# Altium footprint library Chokes.PcbLib: 19 footprints (part 1 of 2)
Each footprint in its own frame and in the unit in brackets; x right, y up, seen from the top. Pads: shape width x height; smd on the part's side, far side on the other; paste and mask are expansions set on the pad; w line width, h text height; cw(c..) or ccw(c..) is an arc to the next point about the centre after c.
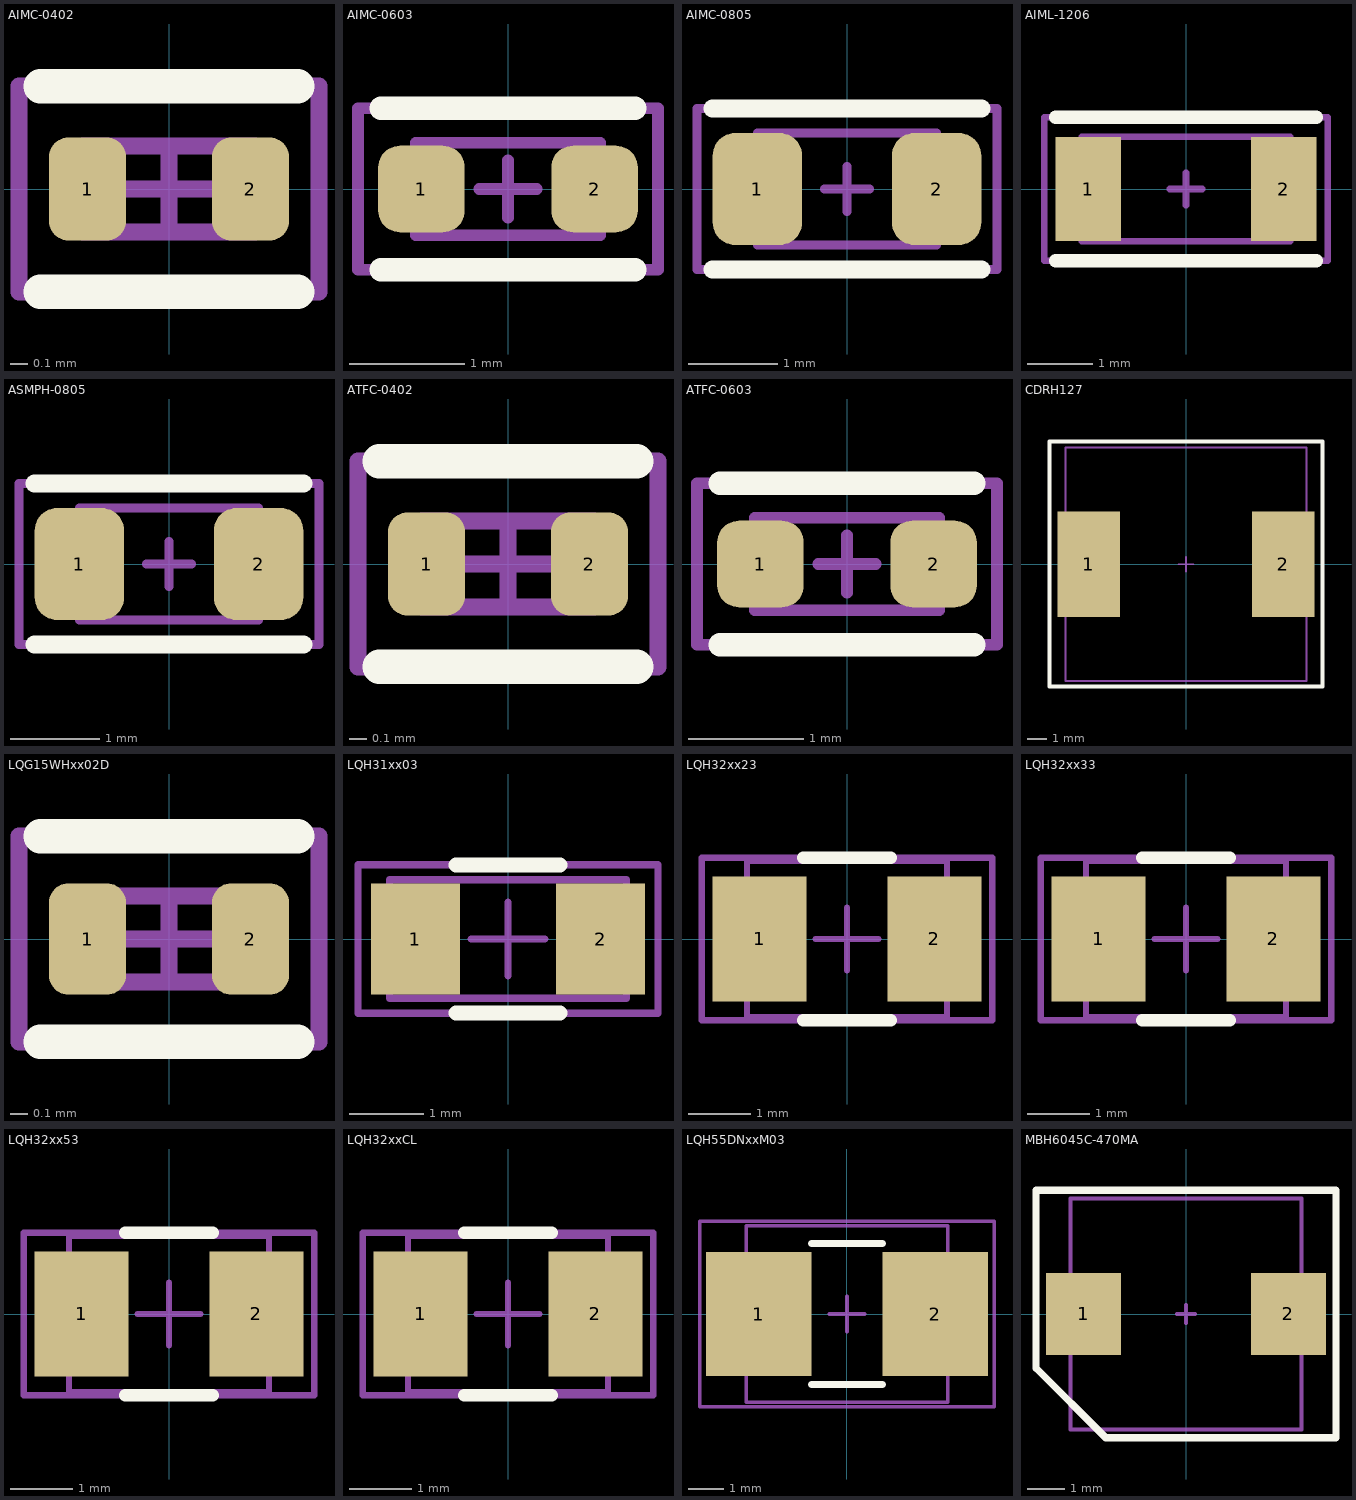
[diagram p0: the footprints below, top view; thin cyan lines are the x and y axes]

## AIMC-0402 [mm]
pads (2):
  rrect50% 0.45x0.6 smd: 1(-0.475,0) 2(0.475,0)
Top Overlay:
  lines w0.2: -0.75,-0.6 0.75,-0.6 ; -0.75,0.6 0.75,0.6
Top Assy:
  lines w0.1: -0.5,-0.25 0.5,-0.25 0.5,0.25 -0.5,0.25 -0.5,-0.25
Border (Mech15):
  lines w0.1: -0.25,0 0.25,0 ; 0,-0.25 0,0.25 ; -0.875,-0.6 -0.875,0.6 0.875,0.6 0.875,-0.6 -0.875,-0.6
3D body "AIMC-0402.STEP": height 0.65, standoff 0, extent -0.5,-0.25 0.5,0.25

## AIMC-0603 [mm]
pads (2):
  rrect50% 0.75x0.75 smd: 1(-0.75,0) 2(0.75,0)
Top Overlay:
  lines w0.2: -1.1,-0.7 1.1,-0.7 ; -1.1,0.7 1.1,0.7
Top Assy:
  lines w0.1: -0.8,-0.4 0.8,-0.4 0.8,0.4 -0.8,0.4 -0.8,-0.4
Border (Mech15):
  lines w0.1: -0.25,0 0.25,0 ; 0,-0.25 0,0.25 ; -1.3,-0.7 -1.3,0.7 1.3,0.7 1.3,-0.7 -1.3,-0.7
3D body "AIMC-0603.STEP": height 0.95, standoff 0, extent -0.8,-0.4 0.8,0.4

## AIMC-0805 [mm]
pads (2):
  rrect50% 1x1.25 smd: 1(-1,0) 2(1,0)
Top Overlay:
  lines w0.2: -1.5,-0.9 1.5,-0.9 ; -1.5,0.9 1.5,0.9
Top Assy:
  lines w0.1: -1,-0.625 1,-0.625 1,0.625 -1,0.625 -1,-0.625
Border (Mech15):
  lines w0.1: -0.25,0 0.25,0 ; 0,-0.25 0,0.25 ; -1.675,-0.9 -1.675,0.9 1.675,0.9 1.675,-0.9 -1.675,-0.9
3D body "AIMC-0805.STEP": height 1.15, standoff 0, extent -1,-0.625 1,0.625

## AIML-1206 [mm]
pads (2):
  rect 1x1.6 smd: 1(-1.5,0) 2(1.5,0)
Top Overlay:
  lines w0.2: -2,-1.1 2,-1.1 ; -2,1.1 2,1.1
Top Assy:
  lines w0.1: -1.6,-0.8 -1.6,0.8 1.6,0.8 1.6,-0.8 -1.6,-0.8
Border (Mech15):
  lines w0.1: -0.25,0 0.25,0 ; 0,-0.25 0,0.25 ; -2.175,-1.1 2.175,-1.1 2.175,1.1 -2.175,1.1 -2.175,-1.1
3D body "AIML-1206.STEP": height 1.4, standoff 0, extent -1.6,-0.8 1.6,0.8

## ASMPH-0805 [mm]
pads (2):
  rrect50% 1x1.25 smd: 1(-1,0) 2(1,0)
Top Overlay:
  lines w0.2: -1.5,-0.9 1.5,-0.9 ; -1.5,0.9 1.5,0.9
Top Assy:
  lines w0.1: -1,-0.625 1,-0.625 1,0.625 -1,0.625 -1,-0.625
Border (Mech15):
  lines w0.1: -0.25,0 0.25,0 ; 0,-0.25 0,0.25 ; -1.675,-0.9 -1.675,0.9 1.675,0.9 1.675,-0.9 -1.675,-0.9
3D body "ASMPH-0805.STEP": height 1, standoff 0, extent -1,-0.625 1,0.625

## ATFC-0402 [mm]
pads (2):
  rrect50% 0.45x0.6 smd: 1(-0.475,0) 2(0.475,0)
Top Overlay:
  lines w0.2: -0.75,-0.6 0.75,-0.6 ; -0.75,0.6 0.75,0.6
Top Assy:
  lines w0.1: -0.5,-0.25 0.5,-0.25 0.5,0.25 -0.5,0.25 -0.5,-0.25
Border (Mech15):
  lines w0.1: -0.25,0 0.25,0 ; 0,-0.25 0,0.25 ; -0.875,-0.6 -0.875,0.6 0.875,0.6 0.875,-0.6 -0.875,-0.6
3D body "ATFC-0402.STEP": height 0.37, standoff 0, extent -0.5,-0.25 0.5,0.25

## ATFC-0603 [mm]
pads (2):
  rrect50% 0.75x0.75 smd: 1(-0.75,0) 2(0.75,0)
Top Overlay:
  lines w0.2: -1.1,-0.7 1.1,-0.7 ; -1.1,0.7 1.1,0.7
Top Assy:
  lines w0.1: -0.8,-0.4 -0.8,0.4 0.8,0.4 0.8,-0.4 -0.8,-0.4
Border (Mech15):
  lines w0.1: -0.25,0 0.25,0 ; 0,-0.25 0,0.25 ; -1.3,-0.7 1.3,-0.7 1.3,0.7 -1.3,0.7 -1.3,-0.7
3D body "ATFC-0603.STEP": height 0.55, standoff 0, extent -0.8,-0.4 0.8,0.4

## CDRH127 [mm]
pads (2):
  rect 3.2x5.4 smd: 1(-5,0) 2(5,0)
Top Overlay:
  lines w0.2: -7,-6.275 -7,6.3 7,6.3 7,-6.275 -7,-6.275
Top Assy:
  lines w0.1: -6.175,-6 -6.175,6 6.175,6 6.175,-6 -6.175,-6
Border (Mech15):
  lines w0.1: -7,-6.275 7,-6.275 7,-6.25 7,6.3 -7,6.3 -7,-6.25 ; -0.375,0 0.375,0 ; 0,-0.375 0,0 0,0.375
3D body "SUMIDA-CDRH127.step": height 7.5, standoff 0.05, extent -6.171,-6 6.171,6

## LQG15WHxx02D [mm]
pads (2):
  rrect50% 0.45x0.65 smd: 1(-0.475,0) 2(0.475,0)
Top Overlay:
  lines w0.2: -0.75,-0.6 0.75,-0.6 ; -0.75,0.6 0.75,0.6
Top Assy:
  lines w0.1: -0.5,-0.25 -0.5,0.25 0.5,0.25 0.5,-0.25 -0.5,-0.25
Border (Mech15):
  lines w0.1: -0.25,0 0.25,0 ; 0,-0.25 0,0.25 ; -0.875,-0.6 0.875,-0.6 0.875,0.6 -0.875,0.6 -0.875,-0.6
3D body "LQG15WHxx02D.STEP": height 0.6, standoff 0, extent -0.5,-0.3 0.5,0.3

## LQH31xx03 [mm]
pads (2):
  rect 1.2x1.5 smd: 1(-1.25,0) 2(1.25,0)
Top Overlay:
  lines w0.2: -0.7,-1 0.7,-1 ; -0.7,1 0.7,1
Top Assy:
  lines w0.1: -1.6,-0.8 -1.6,0.8 1.6,0.8 1.6,-0.8 -1.6,-0.8
Border (Mech15):
  lines w0.1: -0.5,0 0.5,0 ; 0,-0.5 0,0.5 ; -2.025,-1 2.025,-1 2.025,1 -2.025,1 -2.025,-1
3D body "LQW31xx03L.STEP": height 2, standoff 0, extent -1.6,-0.8 1.6,0.8

## LQH32xx23 [mm]
pads (2):
  rect 1.5x2 smd: 1(-1.4,0) 2(1.4,0)
Top Overlay:
  lines w0.2: -0.7,-1.3 0.7,-1.3 ; -0.7,1.3 0.7,1.3
Top Assy:
  lines w0.1: -1.6,-1.25 -1.6,1.25 1.6,1.25 1.6,-1.25 -1.6,-1.25
Border (Mech15):
  lines w0.1: -0.5,0 0.5,0 ; 0,-0.5 0,0.5 ; -2.325,-1.3 2.325,-1.3 2.325,1.3 -2.325,1.3 -2.325,-1.3
3D body "LQH32xx23L.STEP": height 2.2, standoff 0, extent -1.6,-1.25 1.6,1.25

## LQH32xx33 [mm]
pads (2):
  rect 1.5x2 smd: 1(-1.4,0) 2(1.4,0)
Top Overlay:
  lines w0.2: -0.7,-1.3 0.7,-1.3 ; -0.7,1.3 0.7,1.3
Top Assy:
  lines w0.1: -1.6,-1.25 1.6,-1.25 1.6,1.25 -1.6,1.25 -1.6,-1.25
Border (Mech15):
  lines w0.1: -0.5,0 0.5,0 ; 0,-0.5 0,0.5 ; -2.325,-1.3 -2.325,1.3 2.325,1.3 2.325,-1.3 -2.325,-1.3
3D body "LQH32xx33L.STEP": height 2.2, standoff 0, extent -1.6,-1.25 1.6,1.25

## LQH32xx53 [mm]
pads (2):
  rect 1.5x2 smd: 1(-1.4,0) 2(1.4,0)
Top Overlay:
  lines w0.2: -0.7,-1.3 0.7,-1.3 ; -0.7,1.3 0.7,1.3
Top Assy:
  lines w0.1: -1.6,-1.25 -1.6,1.25 1.6,1.25 1.6,-1.25 -1.6,-1.25
Border (Mech15):
  lines w0.1: -0.5,0 0.5,0 ; 0,-0.5 0,0.5 ; -2.325,-1.3 2.325,-1.3 2.325,1.3 -2.325,1.3 -2.325,-1.3
3D body "LQH32xx53L.STEP": height 1.7, standoff 0, extent -1.6,-1.25 1.6,1.25

## LQH32xxCL [mm]
pads (2):
  rect 1.5x2 smd: 1(-1.4,0) 2(1.4,0)
Top Overlay:
  lines w0.2: -0.7,-1.3 0.7,-1.3 ; -0.7,1.3 0.7,1.3
Top Assy:
  lines w0.1: -1.6,-1.25 1.6,-1.25 1.6,1.25 -1.6,1.25 -1.6,-1.25
Border (Mech15):
  lines w0.1: -0.5,0 0.5,0 ; 0,-0.5 0,0.5 ; -2.325,-1.3 -2.325,1.3 2.325,1.3 2.325,-1.3 -2.325,-1.3
3D body "LQH32xxCL.STEP": height 1.7, standoff 0, extent -1.6,-1.25 1.6,1.25

## LQH55DNxxM03 [mm]
pads (2):
  rect 3x3.5 smd: 1(-2.5,0) 2(2.5,0)
Top Overlay:
  lines w0.2: -1,-2 1,-2 ; -1,2 1,2
Top Assy:
  lines w0.1: -2.85,-2.5 -2.85,2.5 2.85,2.5 2.85,-2.5 -2.85,-2.5
Border (Mech15):
  lines w0.1: -0.5,0 0.5,0 ; 0,-0.5 0,0.5 ; -4.175,-2.625 -4.175,2.625 4.175,2.625 4.175,-2.625 -4.175,-2.625
3D body "LQH55D series.step": height 4.7, standoff 0, extent -2.85,-2.5 2.85,2.5

## MBH6045C-470MA [mm]
pads (2):
  rect 2x2.2 smd: 1(-2.75,0) 2(2.75,0)
Top Overlay:
  lines w0.2: -4.025,-1.45 -4.025,3.325 4.025,3.325 4.025,-3.325 -2.15,-3.325 -4.025,-1.45
3D Model:
  lines w0.1: -3.1,-3.1 3.1,-3.1 3.1,3.1 -3.1,3.1 -3.1,-3.1
Border (Mech15):
  lines w0.1: -0.25,0 0.25,0 ; 0,-0.25 0,0.25 ; -4.025,-1.425 -2.15,-3.3 -2.15,-3.325 4.025,-3.325 4.025,3.325 -4.025,3.325 -4.025,-1.425
3D body "MBH6045C.step": height 4.9, standoff -0.1, extent -3.1,-3.1 3.1,3.1